# EAGLE library part RELAY-DPDT (library Hoektronics)
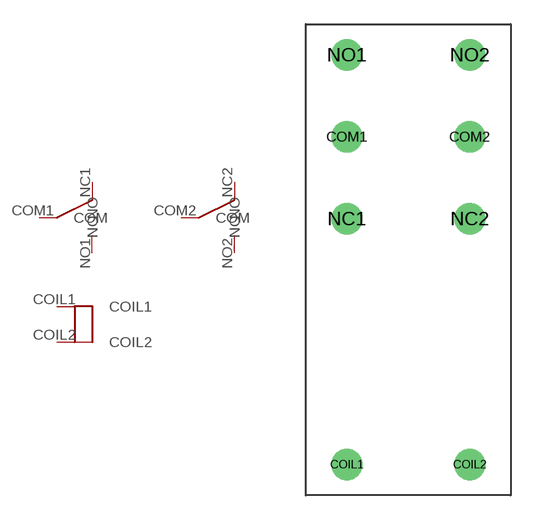
[diagram p8: symbol with the pads of DPDT-RELAY; footprint DPDT-RELAY]

Designator prefix S; gates G$1=COIL G$2=SWITCH G$3=SWITCH

## RELAY-DPDT  [DPDT-RELAY]
COIL1  G$1:COIL1
COIL2  G$1:COIL2
COM1  G$2:COM
COM2  G$3:COM
NC1  G$2:NC
NC2  G$3:NC
NO1  G$2:NO
NO2  G$3:NO

## Footprint DPDT-RELAY (pad centres in mm)
drill 1.295: COIL1 -3.81,-10.795; COIL2 3.81,-10.795; COM1 -3.81,9.525; COM2 3.81,9.525; NC1 -3.81,4.445; NC2 3.81,4.445; NO1 -3.81,14.605; NO2 3.81,14.605